# EAGLE library part SN65C1168 (library sb2030_logger)
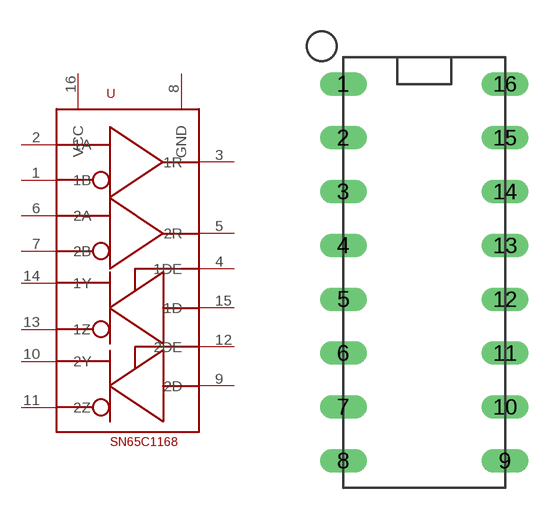
[diagram p2: symbol with the pads of DIP16; footprint DIP16]

Designator prefix -

## SN65C1168  [DIP16]
1  1B
2  1A
3  1R
4  1DE
5  2R
6  2A
7  2B
8  GND
9  2D
10  2Y
11  2Z
12  2DE
13  1Z
14  1Y
15  1D
16  VCC

## Footprint DIP16 (pad centres in mm)
drill 0.6 long: 1 -3.81,8.89; 2 -3.81,6.35; 3 -3.81,3.81; 4 -3.81,1.27; 5 -3.81,-1.27; 6 -3.81,-3.81; 7 -3.81,-6.35; 8 -3.81,-8.89; 9 3.81,-8.89; 10 3.81,-6.35; 11 3.81,-3.81; 12 3.81,-1.27; 13 3.81,1.27; 14 3.81,3.81; 15 3.81,6.35; 16 3.81,8.89